# EAGLE library part AS-ITM-00363 (library tinycircuits)
SENSOR TEMPERATURE I2C 8TSSOP
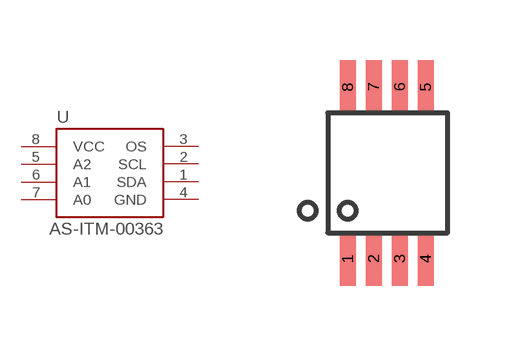
[diagram p144: symbol with the pads of 8-USOP; footprint 8-USOP]

Designator prefix U

## AS-ITM-00363  [8-USOP]
1  SDA
2  SCL
3  OS
4  GND
5  A2
6  A1
7  A0
8  VCC

## Footprint 8-USOP (pad centres in mm)
smd 0.4 x 1.35: 1 -1,-2.1; 2 -0.35,-2.1; 3 0.3,-2.1; 4 0.95,-2.1; 5 0.95,2.2; 6 0.3,2.2; 7 -0.35,2.2; 8 -1,2.2